# Altium footprint library NIXIE_clock.PcbLib: 6 footprints
Each footprint in its own frame and in the unit in brackets; x right, y up, seen from the top. Pads: shape width x height; smd on the part's side, far side on the other; paste and mask are expansions set on the pad; w line width, h text height; cw(c..) or ccw(c..) is an arc to the next point about the centre after c.
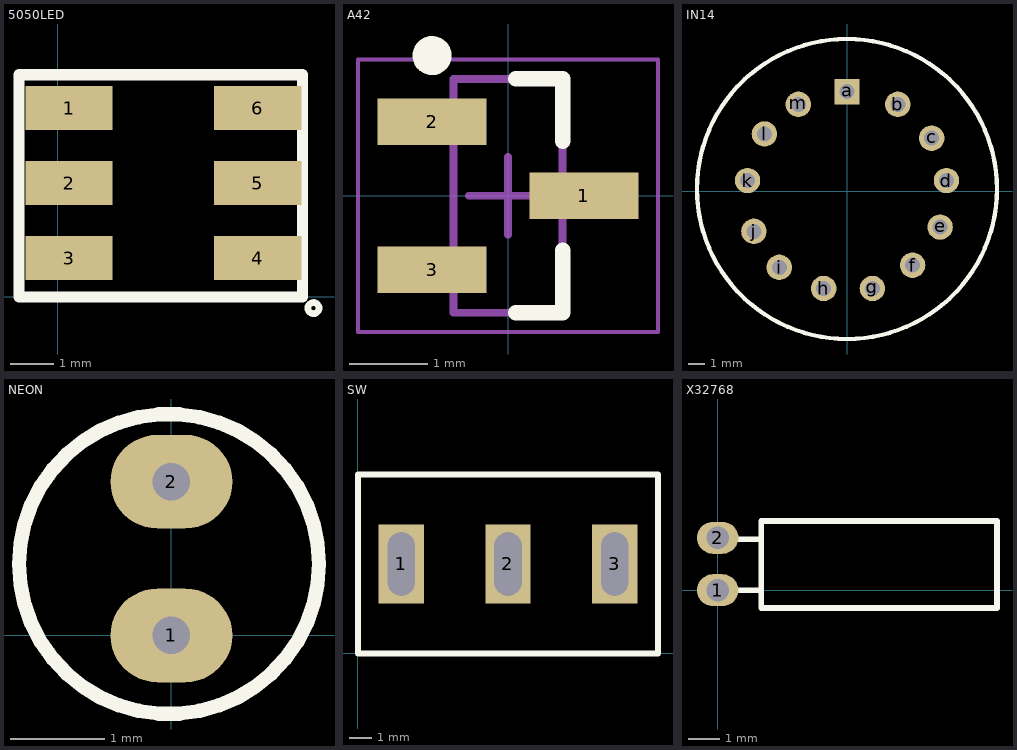
[diagram p0: the footprints below, top view; thin cyan lines are the x and y axes]

## 5050LED [mil]
pads (6):
  rect 78.74x39.37 smd: 1(10,170) 2(10,102.5) 3(10,35) 4(180,35) 5(180,102.5) 6(180,170)
Top Overlay:
  circle w6: c230,-10 r5
  lines w10: -35,0 220,0 220,200 -35,200 -35,0

## A42 [mm] "SOT23, 3-Leads, Body 2.90x2.40mm, Pitch 0.95mm, IPC Medium Density"
height 1.15
pads (3):
  rect 1.4x0.6 smd: 1(0.975,0) 2(-0.975,0.95) 3(-0.975,-0.95)
Top Overlay:
  circle w0.25: c-0.975,1.8 r0.125
  lines w0.2: 0.1,-1.5 0.7,-1.5 0.7,-0.7 ; 0.1,1.5 0.7,1.5 0.7,0.7
Mechanical 13:
  lines w0.1: -0.7,-1.5 -0.7,1.5 0.7,1.5 0.7,-1.5 -0.7,-1.5
Mechanical 15:
  lines w0.05: -1.925,-1.75 -1.925,1.75 1.925,1.75 1.925,-1.75 -1.925,-1.75
  lines w0.1: -0.5,0 0.5,0 ; 0,-0.5 0,0.5
3D body: height 1.15, standoff 0.1, extent -0.7,-1.5 0.7,1.5

## IN14 [mil]
pads (13):
  rect 60x60 hole 35.43: a(0,235)
  round 60 hole 35.43: b(120,205) c(200,125) d(235,25) e(220,-85) f(155,-175) g(60,-230) h(-55,-230) i(-160,-180) j(-220,-95) k(-235,25) l(-195,135) m(-115,205)
Top Overlay:
  circle w10.05: c0,5 r354.33

## NEON [mm]
pads (2):
  oval 1.3x1 hole 0.4: 1(0,0) 2(0,1.64)
Top Overlay:
  circle w0.152: c-0.026,0.762 r1.6

## SW [mm]
pads (3):
  rect 2x3.5 hole 1.2 slot 2.8 at 90 deg: 1(1.905,3.937) 2(6.604,3.937) 3(11.303,3.937)
Top Overlay:
  lines w0.254: 0,0 0,7.874 13.208,7.874 13.208,0 0,0

## X32768 [mm]
pads (2):
  oval 1.3x1 hole 0.7: 1(0,0) 2(0,1.64)
Top Overlay:
  lines w0.178: 0.508,1.6 1.37,1.6 ; 0.58,0 1.37,-0.01 ; 1.37,-0.56 8.77,-0.56 8.77,2.17 1.37,2.17 1.37,-0.56